# EAGLE library part LA4743 (library joep-custom)
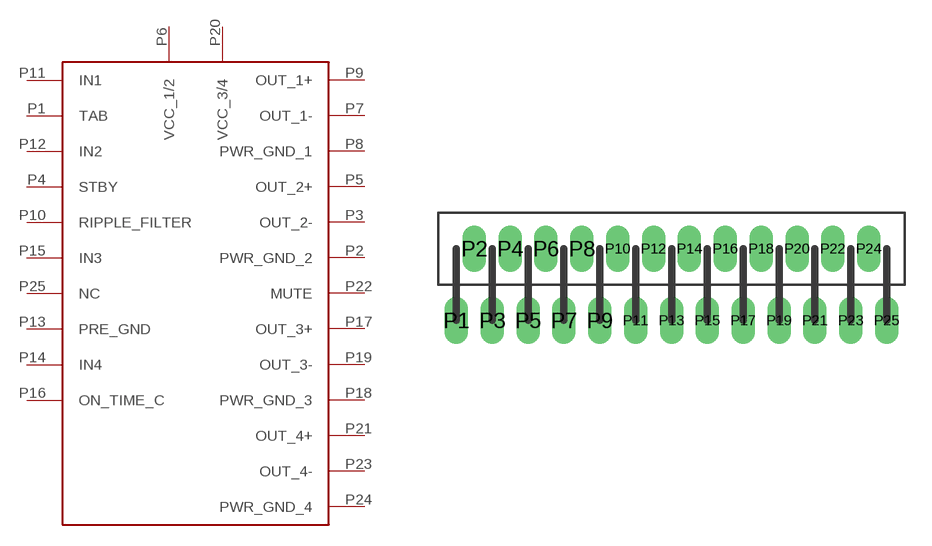
[diagram p5: symbol with the pads of LA4743; footprint LA4743]

Designator prefix -

## LA4743  [LA4743]
P1  TAB
P2  PWR_GND_2
P3  OUT_2-
P4  STBY
P5  OUT_2+
P6  VCC_1/2
P7  OUT_1-
P8  PWR_GND_1
P9  OUT_1+
P10  RIPPLE_FILTER
P11  IN1
P12  IN2
P13  PRE_GND
P14  IN4
P15  IN3
P16  ON_TIME_C
P17  OUT_3+
P18  PWR_GND_3
P19  OUT_3-
P20  VCC_3/4
P21  OUT_4+
P22  MUTE
P23  OUT_4-
P24  PWR_GND_4
P25  NC

## Footprint LA4743 (pad centres in mm)
drill 0.8 long: P1 -13,-4; P2 -12,0; P3 -11,-4; P4 -10,0; P5 -9,-4; P6 -8,0; P7 -7,-4; P8 -6,0; P9 -5,-4; P10 -4,0; P11 -3,-4; P12 -2,0; P13 -1,-4; P14 0,0; P15 1,-4; P16 2,0; P17 3,-4; P18 4,0; P19 5,-4; P20 6,0; P21 7,-4; P22 8,0; P23 9,-4; P24 10,0; P25 11,-4